# Altium schematic symbol library Holders.SchLib: 2 symbols
Pins are listed as number, name and electrical type; pins without a type are passive.

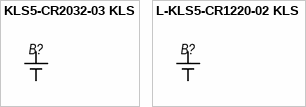
[diagram p0: symbols KLS5-CR2032-03 KLS to L-KLS5-CR1220-02 KLS]

## KLS5-CR2032-03 KLS
designator B?  (value not drawn)
footprint KLS5-CR2032-03
pins: 1, 2

## L-KLS5-CR1220-02 KLS
designator B?  (value not drawn)
footprint L-KLS5-CR1220-02
pins: 1, 2